# Altium footprint library L17.PcbLib: 7 footprints
Each footprint in its own frame and in the unit in brackets; x right, y up, seen from the top. Pads: shape width x height; smd on the part's side, far side on the other; paste and mask are expansions set on the pad; w line width, h text height; cw(c..) or ccw(c..) is an arc to the next point about the centre after c.
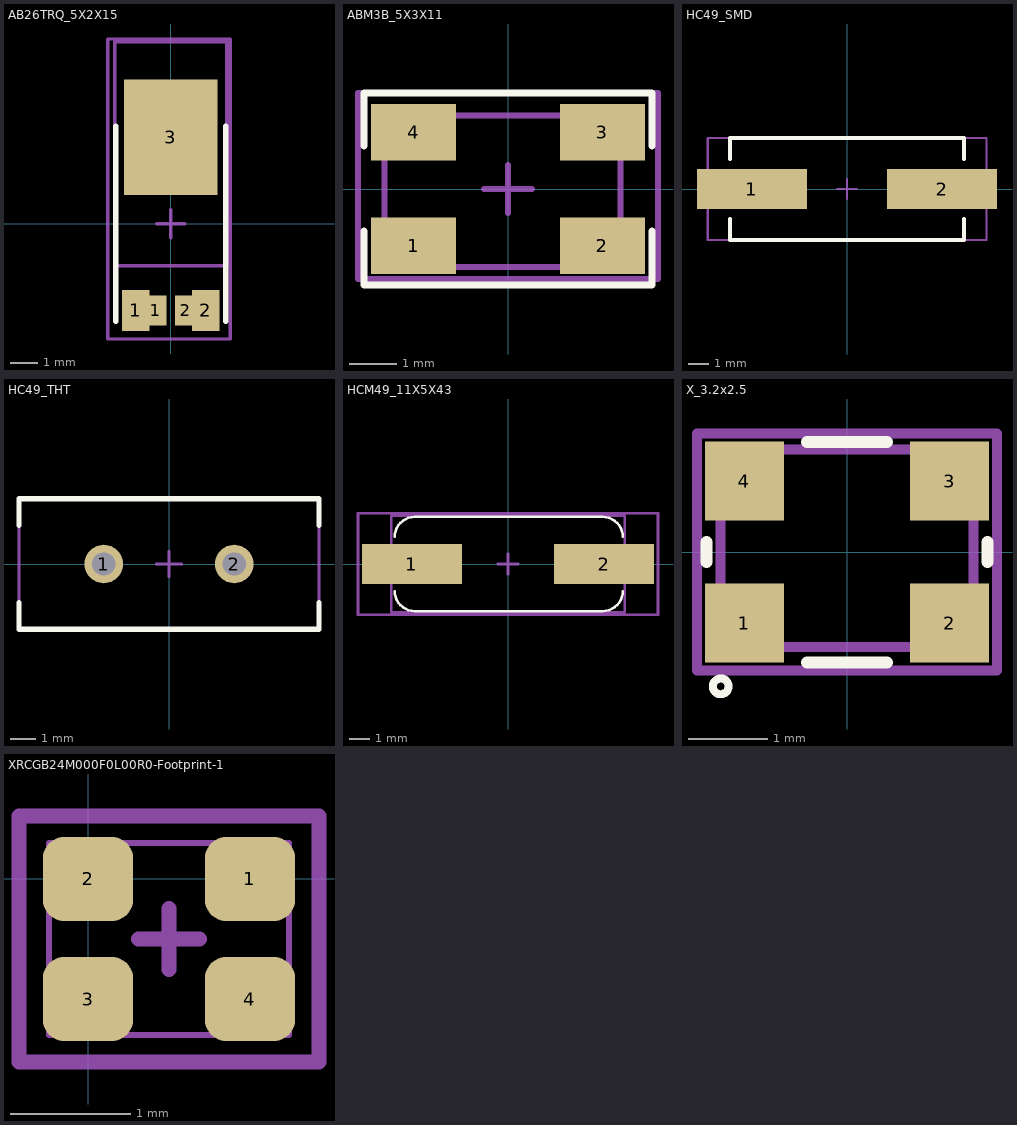
[diagram p0: the footprints below, top view; thin cyan lines are the x and y axes]

## AB26TRQ_5X2X15 [mm]
pads (5):
  rect 1x1.5 smd: 1(-1.27,-3.15) 2(1.27,-3.15)
  rect 0.8x1.1 smd: 1(-0.55,-3.15) 2(0.55,-3.15)
  rect 3.4x4.2 smd: 3(0,3.15)
Top Overlay:
  lines w0.203: -2,-3.55 -2,3.55 ; 2,-3.55 2,3.55
Top Paste:
  rectangle: -1.168,-3.531 -0.33,-2.769
  rectangle: 0.33,-3.531 1.422,-2.769
Mechanical 13:
  lines w0.127: -2.032,-1.524 -2.032,6.632 2.032,6.632 2.032,-1.524 -1.905,-1.524 -2.032,-1.524
Mechanical 15:
  lines w0.127: -0.508,0 0.508,0 ; 0,-0.508 0,0.508 ; -2.286,-4.191 2.159,-4.191 2.159,6.731 -2.159,6.731 -2.286,6.731 -2.286,-4.191
Mechanical 17:
  text "'.Designator'" at -0.381,5.588 h0.64
3D body "User Library-Crystal TH.step": height 1.6, standoff -1.6, extent -1.676,-4.143 1.774,6.632

## ABM3B_5X3X11 [mm]
pads (4):
  rect 1.8x1.2 smd: 1(-2,-1.2) 2(2,-1.2) 3(2,1.2) 4(-2,1.2)
Top Overlay:
  lines w0.152: -3.048,-0.889 -3.048,-2.032 3.048,-2.032 3.048,-0.889 ; -3.048,0.914 -3.048,2.032 3.048,2.032 3.048,0.914
Mechanical 13:
  lines w0.127: -2.616,-1.647 -2.616,1.553 2.384,1.553 2.384,-1.647 -2.616,-1.647
Mechanical 15:
  lines w0.127: -0.508,0 0.508,0 ; 0,-0.508 0,0.508 ; -3.175,-1.905 -3.175,2.032 3.175,2.032 3.175,-1.905 -3.175,-1.905
Mechanical 17:
  text "'.Designator'" at -1.905,-0.127 h0.33
3D body "User Library-ABM3B.STEP": height 1.1, standoff 0, extent -2.616,-1.647 2.384,1.553

## HC49_SMD [mm] "HC49, 2-Leads"
height 4
pads (2):
  rect 5.5x2 smd: 1(-4.75,0) 2(4.75,0)
Top Overlay:
  lines w0.2: -5.842,-1.5 -5.842,-2.54 5.842,-2.54 5.842,-1.5 ; -5.842,1.5 -5.842,2.54 5.842,2.54 5.842,1.5
Mechanical 13:
  lines w0.1: -6.985,-2.54 6.985,-2.54 6.985,2.54 -6.985,2.54 -6.985,-2.54
Mechanical 15:
  lines w0.05: -6.925,-2.54 6.985,-2.54 6.985,2.54 -6.925,2.54 -6.925,-2.54
  lines w0.1: -0.5,0 0.5,0 ; 0,-0.5 0,0.5
Mechanical 17:
  text "'.Designator'" at -4.826,-0.508 h1.02
3D body "User Library-HC49_Crystal_SM.step": height 4.5, standoff -0.01, extent -6.95,-2.5 6.95,2.5

## HC49_THT [mm] "HC49, 2-Leads, 200mil spacing"
height 4
pads (2):
  round 1.5 hole 0.9: 1(-2.54,0) 2(2.54,0)
Top Overlay:
  lines w0.2: -5.842,-1.5 -5.842,-2.54 5.842,-2.54 5.842,-1.5 ; -5.842,1.5 -5.842,2.54 5.842,2.54 5.842,1.5
Mechanical 13:
  lines w0.1: -5.842,-2.54 5.842,-2.54 5.842,2.54 -5.842,2.54 -5.842,-2.54
Mechanical 15:
  lines w0.05: -5.842,-2.54 5.842,-2.54 5.842,2.54 -5.842,2.54 -5.842,-2.54
  lines w0.1: -0.5,0 0.5,0 ; 0,-0.5 0,0.5
3D body "User Library-HP49US.step": height 3.5, standoff -4, extent -5.675,-2.364 5.675,2.286

## HCM49_11X5X43 [mm]
pads (2):
  rect 5x2 smd: 1(-4.8,0) 2(4.8,0)
Top Overlay:
  lines w0.127: -5.663,-1.35 ccw(c-4.663,-1.35) -4.663,-2.35 4.737,-2.35 ccw(c4.737,-1.35) 5.737,-1.35 ; -5.663,1.35 cw(c-4.663,1.35) -4.663,2.35 4.737,2.35 cw(c4.737,1.35) 5.737,1.35
Mechanical 13:
  lines w0.127: -5.842,-2.413 -5.842,2.413 5.842,2.413 5.842,-2.413 -5.842,-2.413
Mechanical 15:
  lines w0.127: -0.508,0 0.508,0 ; 0,-0.508 0,0.508 ; -7.493,-2.54 7.493,-2.54 7.493,2.54 -7.366,2.54 -7.493,2.54 -7.493,-2.54
Mechanical 17:
  text "'.Designator'" at -4.572,-0.508 h1.02
3D body "User Library-SMU-4.step": height 4, standoff 0, extent -6.224,-2.375 6.276,2.426

## X_3.2x2.5 [mm] "Crystal resonator; 3.2mm x 2.5mm"
height 1.2
pads (4):
  rect 1x1 smd: 1(-1.3,-0.9) 2(1.3,-0.9) 3(1.3,0.9) 4(-1.3,0.9)
Top Overlay:
  circle w0.1: c-1.6,-1.7 r0.1
  lines w0.152: -1.778,-0.127 -1.778,0.127 ; -0.508,-1.397 0.508,-1.397 ; -0.508,1.397 0.508,1.397 ; 1.778,-0.127 1.778,0.127
Mechanical 2:
  lines w0.127: -1.6,-1.2 -1.6,1.3 1.6,1.3 1.6,-1.2 -1.6,-1.2
Mechanical 4:
  lines w0.127: -1.9,-1.5 -1.9,1.5 1.9,1.5 1.9,-1.5 -1.9,-1.5
3D body "User Library-ABM8G.step": height 1.01, standoff 0, extent -1.6,-1.25 1.6,1.25

## XRCGB24M000F0L00R0-Footprint-1 [mm] "Ceramic Resonator SMD 2.00x1.6mm"
pads (4):
  rrect50% 0.75x0.7 smd: 1(1.35,0) 2(0,0) 3(0,-1) 4(1.35,-1)
Mechanical 2:
  lines w0.051: -0.325,-1.3 -0.325,0.3 1.675,0.3 1.675,-1.3 -0.325,-1.3
Mechanical 4:
  lines w0.127: 0.421,-0.5 0.929,-0.5 ; 0.675,-0.754 0.675,-0.246 ; -0.575,-1.525 -0.575,0.525 1.925,0.525 1.925,-1.525 -0.575,-1.525
3D body "User Library-XRCGB27M000F2P00R0.step": height 0.65, standoff 0, extent -0.325,-1.3 1.675,0.3